# Altium footprint library SX1308_GTW_e381v02c.PcbLib: 73 footprints (part 3 of 5)
Each footprint in its own frame and in the unit in brackets; x right, y up, seen from the top. Pads: shape width x height; smd on the part's side, far side on the other; paste and mask are expansions set on the pad; w line width, h text height; cw(c..) or ccw(c..) is an arc to the next point about the centre after c.
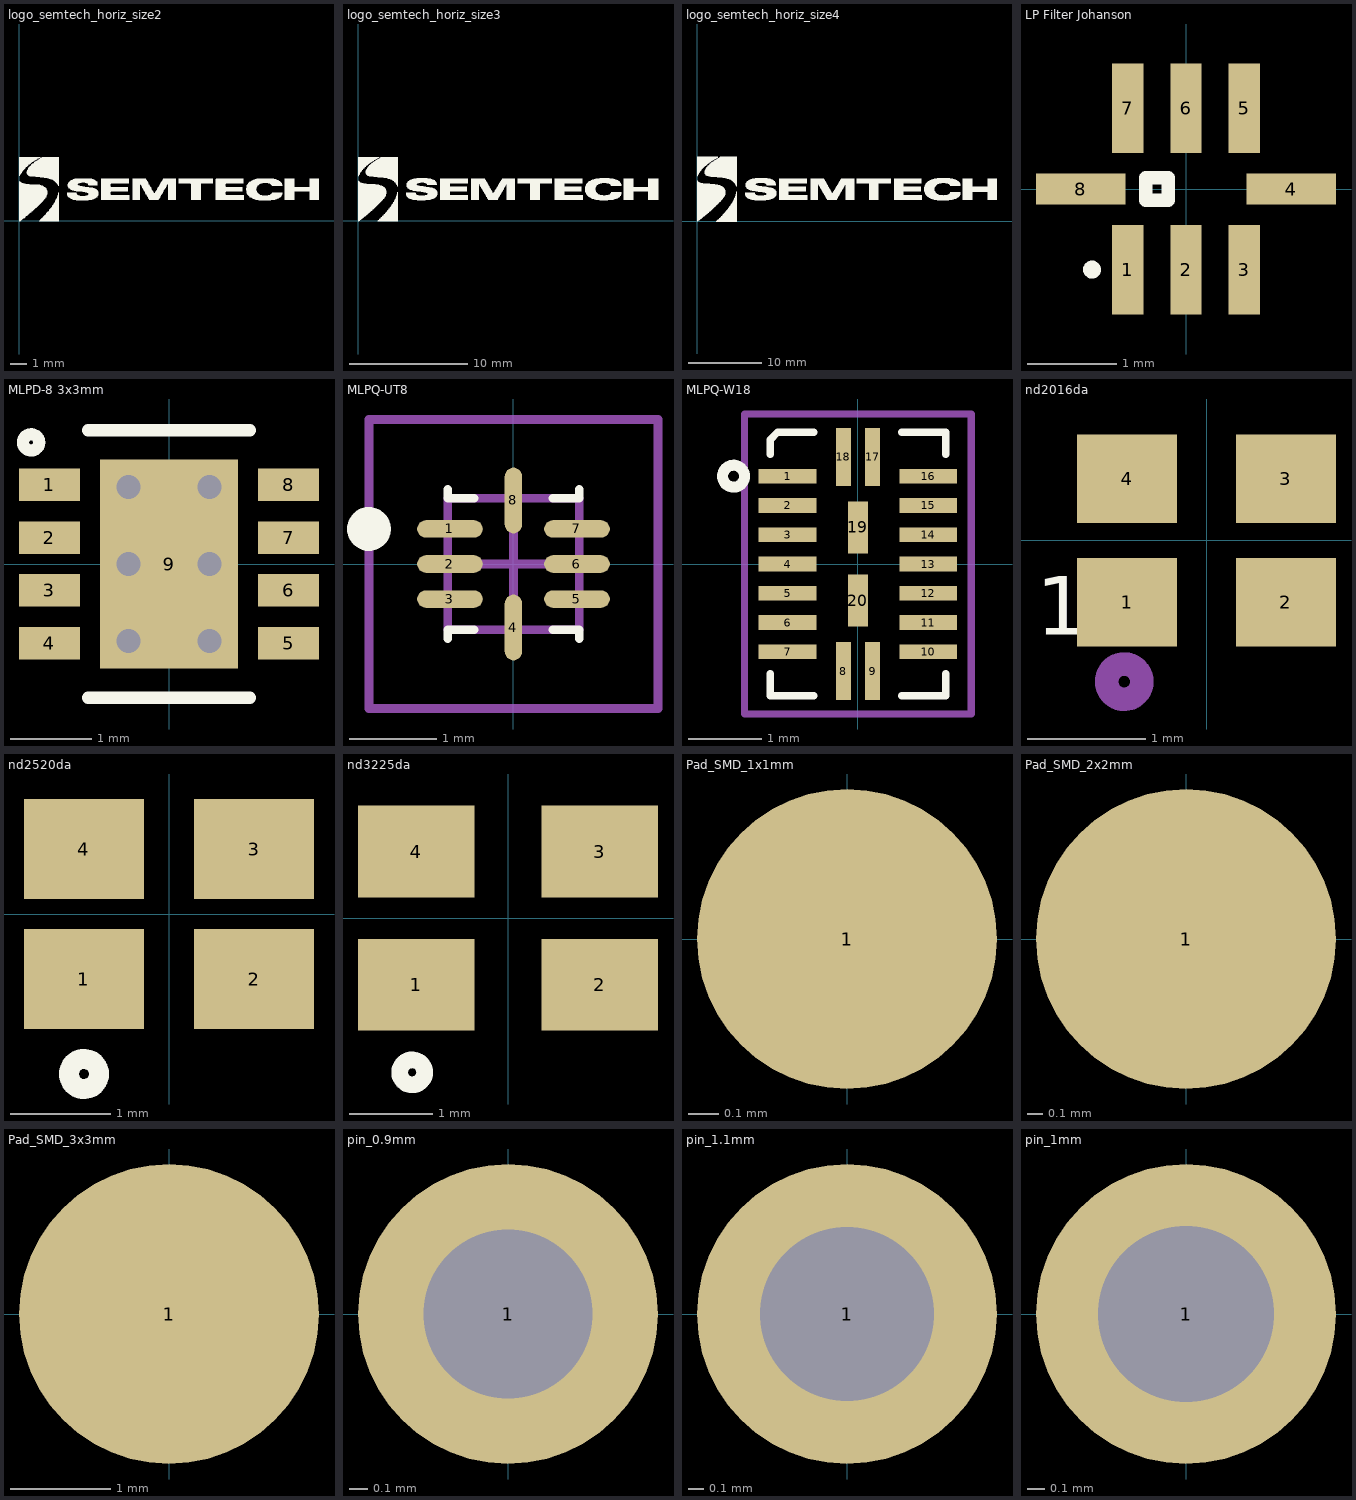
[diagram p2: the footprints below, top view; thin cyan lines are the x and y axes]

## logo_semtech_horiz_size2 [mm] "Logo semtech horizontal - size2 - M"
Top Overlay:
  drawing of 790 lines, arcs and shapes, not listed

## logo_semtech_horiz_size3 [mm] "Logo semtech horizontal - size3 - L"
Top Overlay:
  drawing of 1137 lines, arcs and shapes, not listed

## logo_semtech_horiz_size4 [mm] "Logo semtech horizontal - size4 - XL"
Top Overlay:
  drawing of 1852 lines, arcs and shapes, not listed

## LP Filter Johanson [mm] "Low Pass Filter ; Body 2.00 x 1.25 mm (LxW max)"
height 0.5
pads (8):
  rect 0.35x1 smd mask+0.05: 1(-0.65,-0.9) 2(0,-0.9) 3(0.65,-0.9) 5(0.65,0.9) 6(0,0.9) 7(-0.65,0.9)
  rect 1x0.35 smd mask+0.05: 4(1.175,0) 8(-1.175,0)
Top Overlay:
  circle w0.1: c-1.05,-0.9 r0.05
  lines w0.15: -0.45,-0.125 -0.45,0.125 -0.2,0.125 -0.2,-0.125 -0.45,-0.125
3D body: height 12, standoff 0, extent -1,-0.625 1,0.625

## MLPD-8 3x3mm [mm] "MLPD-8; 3.0x3.0mm; 0.65mm pitch"
height 0.8
pads (9):
  rect 0.75x0.4 smd mask+0.05: 1(-1.475,0.975) 2(-1.475,0.325) 3(-1.475,-0.325) 4(-1.475,-0.975) 5(1.475,-0.975) 6(1.475,-0.325) 7(1.475,0.325) 8(1.475,0.975)
  rect 1.7x2.58 smd paste+0 mask+0.05: 9(0,0)
via 0.5,-0.95 diameter 0.6 hole 0.3
via -0.5,0 diameter 0.6 hole 0.3
via 0.5,0.95 diameter 0.6 hole 0.3
via -0.5,-0.95 diameter 0.6 hole 0.3
via 0.5,0 diameter 0.6 hole 0.3
via -0.5,0.95 diameter 0.6 hole 0.3
Top Overlay:
  circle w0.15: c-1.7,1.5 r0.1
  lines w0.15: -1,-1.65 1,-1.65 ; -1,1.65 1,1.65
3D body: height 1, standoff 0, extent -1.5,-1.5 1.5,1.5

## MLPQ-UT8 [mm]
height 0.6
pads (8):
  oval 0.75x0.2 smd mask+0.05: 1(-0.725,0.4) 2(-0.725,0) 3(-0.725,-0.4) 5(0.725,-0.4) 6(0.725,0) 7(0.725,0.4)
  oval 0.2x0.75 smd mask+0.05: 4(0,-0.725) 8(0,0.725)
Top Overlay:
  circle w0.25: c-1.65,0.4 r0.125
  lines w0.1: -0.75,-0.85 -0.75,-0.75 -0.45,-0.75 ; -0.75,0.85 -0.75,0.8 -0.75,0.75 -0.45,0.75 ; 0.45,-0.75 0.75,-0.75 0.75,-0.85 ; 0.45,0.75 0.75,0.75 0.75,0.85
Mechanical 13:
  lines w0.1: -0.75,-0.75 -0.75,0.75 0.75,0.75 0.75,-0.75 -0.75,-0.75
Mechanical 15:
  lines w0.1: -0.5,0 0.5,0 ; 0,-0.5 0,0.5 ; -1.65,-1.65 -1.65,1.65 1.65,1.65 1.65,-1.65 -1.65,-1.65
3D body: height 0.6, standoff 0, extent -0.8,-0.75 0.75,0.8

## MLPQ-W18 [mil] "MLPQ-W18 ; 2mm x 3mm"
height 39.37
pads (20):
  rect 31x8 smd mask+1.97: 1(-37.89,47.24) 2(-37.89,31.5) 3(-37.89,15.75) 4(-37.89,0) 5(-37.89,-15.75) 6(-37.89,-31.5) 7(-37.89,-47.24) 10(37.89,-47.24) 11(37.89,-31.5) 12(37.89,-15.75) 13(37.89,0) 14(37.89,15.75) 15(37.89,31.5) 16(37.89,47.24)
  rect 8x31 smd mask+1.97: 8(-7.87,-57.58) 9(7.87,-57.58) 17(7.87,57.58) 18(-7.87,57.58)
  rect 11x28 smd mask+1.97: 19(0,19.69) 20(0,-19.69)
Top Overlay:
  circle w5.91: c-66.93,47.24 r5.91
  lines w3.94: -47.24,-59.06 -47.24,-70.87 -23.62,-70.87 ; -47.24,59.06 -47.24,66.93 -43.31,70.87 -23.62,70.87 ; 23.62,-70.87 47.24,-70.87 47.24,-59.06 ; 23.62,70.87 47.24,70.87 47.24,59.06
Mechanical 15:
  lines w3.94: -61.02,-80.71 61.02,-80.71 61.02,80.71 -61.02,80.71 -61.02,-80.71

## nd2016da [mm] "Crystal SMD 2.0x1.6mm"
height 0.55
pads (4):
  rect 0.85x0.75 smd mask+0.05: 1(-0.675,-0.525) 2(0.675,-0.525) 3(0.675,0.525) 4(-0.675,0.525)
Top Overlay:
  text "1" at -1.45,-0.8 h0.5
Mechanical 15:
  circle w0.2: c-0.7,-1.2 r0.15
3D body: height 1, standoff 0, extent -1,-0.8 1,0.8

## nd2520da [mm] "Crystal SMD 2.5x2.0mm"
height 0.7
pads (4):
  rect 1.2x1 smd mask+0.05: 1(-0.85,-0.65) 2(0.85,-0.65) 3(0.85,0.65) 4(-0.85,0.65)
Top Overlay:
  circle w0.2: c-0.85,-1.6 r0.15
3D body: height 1, standoff 0, extent -1.25,-1 1.25,1

## nd3225da [mm] "Crystal SMD 3.2x2.5mm"
height 0.8
pads (4):
  rect 1.4x1.1 smd mask+0.05: 1(-1.1,-0.8) 2(1.1,-0.8) 3(1.1,0.8) 4(-1.1,0.8)
Top Overlay:
  circle w0.2: c-1.15,-1.85 r0.15
3D body: height 1, standoff 0, extent -1.6,-1.25 1.6,1.25

## Pad_SMD_1x1mm [mm] "Pad  SMD 1x1mm; No SolderMask, No PasteMask 1 Lead"
height 1
pads (1):
  round 1 smd paste-2 mask+0.05: 1(0,0)

## Pad_SMD_2x2mm [mm] "Pad  SMD 2x2mm; No SolderMask, No PasteMask 1 Lead"
height 1
pads (1):
  round 2 smd paste-2 mask+0.05: 1(0,0)

## Pad_SMD_3x3mm [mm] "Pad  SMD 3x3mm; No SolderMask, No PasteMask 1 Lead"
height 1
pads (1):
  round 3 smd paste-2 mask+0.05: 1(0,0)

## pin_0.9mm [mm] "Generic Pin 0.9mm; 1 Lead"
height 1
pads (1):
  round 1.6 hole 0.9 mask+0.05: 1(0,0)

## pin_1.1mm [mm] "Generic Pin 1.1mm; 1 Lead"
height 1
pads (1):
  round 1.9 hole 1.1 mask+0.05: 1(0,0)

## pin_1mm [mm] "Generic Pin 1.1mm; 1 Lead"
height 1
pads (1):
  round 1.7 hole 1 paste+0 mask+0.05: 1(0,0)